# Altium schematic symbol library Rez-Axial Pot.SchLib: 52 symbols
Pins are listed as number, name and electrical type; pins without a type are passive.

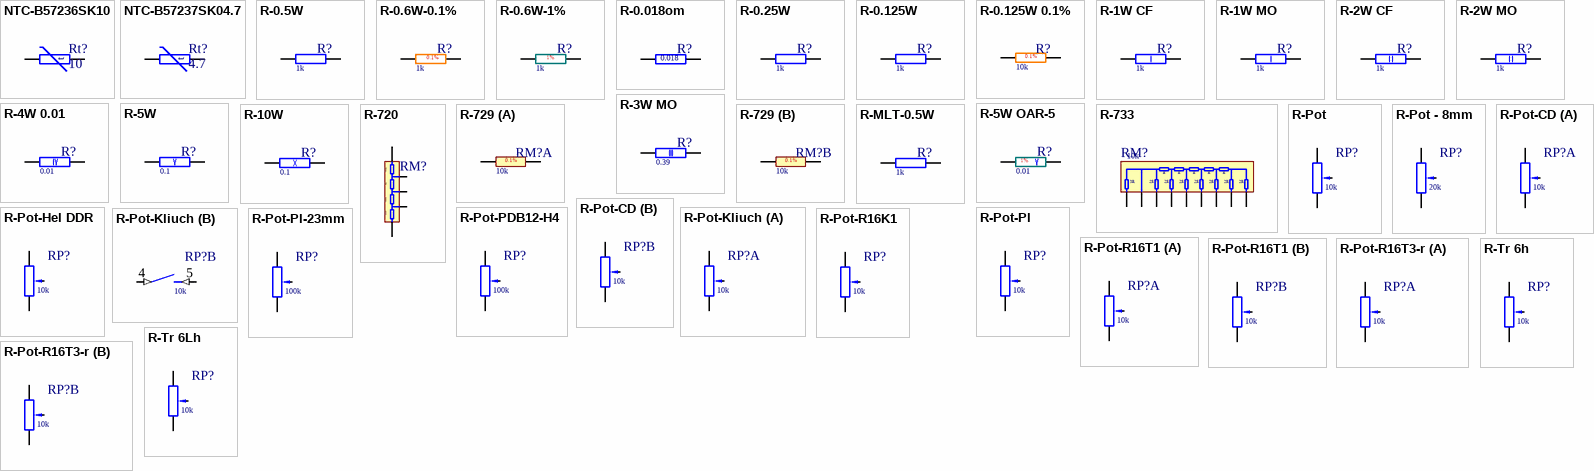
[diagram p0: symbols NTC-B57236SK10 to R-Tr 6Lh]

## NTC-B57236SK10
designator Rt?, comment 10
10oM 3.5A; Price: 1.15
footprint NTC D11.5-R5.08
pins: 1, 2
1 alternate drawing of the same symbol
text: t

## NTC-B57237SK04.7
designator Rt?, comment 4.7
4.7oM 5.1A; Price: 1.15
footprint NTC D15-R7.62
pins: 1, 2
1 alternate drawing of the same symbol
text: t

## R-0.5W
designator R?, comment 1k
0.5W 5% 350V; Price: 0.01; Value: 1k
footprint R0.5-400
simulation model Res (Resistor)
signal-integrity model Res
pins: 1, 2
1 alternate drawing of the same symbol

## R-0.6W-0.1%
designator R?, comment 1k
0.6W 0.1% 250V; Price: 0.5; Value: 1k
footprint R0.25-300a
simulation model Res (Resistor)
signal-integrity model Res
pins: 1, 2
1 alternate drawing of the same symbol
text: 0.1%

## R-0.6W-1%
designator R?, comment 1k
0.6W 1% 250V; Price: 0.02; Value: 1k
footprint R0.25-300a
simulation model Res (Resistor)
signal-integrity model Res
pins: 1, 2
1 alternate drawing of the same symbol
text: 1%

## R-0.018om
designator R?, comment 0.018
5W; Price: 0.02; Value: 0.018
footprint R-0.018
simulation model Res (Resistor)
signal-integrity model Res
pins: 1, 2
1 alternate drawing of the same symbol

## R-0.25W
designator R?, comment 1k
0.25W 5% 250V; Price: 0.01; Value: 1k
footprint R0.25-300
footprint R0.25-400
simulation model Res (Resistor)
signal-integrity model Res
pins: 1, 2
1 alternate drawing of the same symbol

## R-0.125W
designator R?, comment 1k
0.125W 5% 200V; Price: 0.01; Value: 1k
footprint R0.125-200
footprint R0.125-300
signal-integrity model Res
simulation model Res (Resistor)
pins: 1, 2
1 alternate drawing of the same symbol

## R-0.125W 0.1%
designator R?, comment 10k
Керамичен 0.125W 1%; Price: 0.01; Value: 10k
footprint RM2-300
simulation model Res (Resistor)
signal-integrity model Res
pins: 1, 2
1 alternate drawing of the same symbol
text: 0.1%

## R-1W CF
designator R?, comment 1k
1W 5% 500V; Price: 0.053; Value: 1k
footprint R1W CF-500
simulation model Res (Resistor)
signal-integrity model Res
footprint R1W CF-200 Ver
pins: 1, 2
1 alternate drawing of the same symbol

## R-1W MO
designator R?, comment 1k
1W 5% 350V; Price: 0.065; Value: 1k
footprint R1W MO-500
simulation model Res (Resistor)
signal-integrity model Res
footprint R1W MO-200 Ver
footprint R1W MO-600
pins: 1, 2
1 alternate drawing of the same symbol

## R-2W CF
designator R?, comment 1k
2W 5% 500V; Price: 0.1; Value: 1k
footprint R2W CF-700
simulation model Res (Resistor)
signal-integrity model Res
footprint R2W CF-200 Ver
footprint R2W CF-650
pins: 1, 2
1 alternate drawing of the same symbol

## R-2W MO
designator R?, comment 1k
2W 5% 350V; Price: 0.1; Value: 1k
footprint R2W MO-600
simulation model Res (Resistor)
signal-integrity model Res
footprint R2W MO-700
footprint R2W CF-200 Ver
pins: 1, 2
1 alternate drawing of the same symbol

## R-3W MO
designator R?, comment 0.39
3W 5% 500V; Price: 0.1; Value: 0.39
footprint R3W MO-700
footprint R3W MO-800
signal-integrity model Res
simulation model Res (Resistor)
footprint R3W MO-150 Ver
footprint R3W MO-200 Ver
pins: 1, 2
1 alternate drawing of the same symbol

## R-4W 0.01
designator R?, comment 0.01
4W 5%; Price: 0.1; Value: 0.01
footprint R4W-800
signal-integrity model Res
simulation model Res (Resistor)
pins: 1, 2
1 alternate drawing of the same symbol

## R-5W
designator R?, comment 0.1
5W 5%; Price: 0.20; Value: 0.1
footprint R5W-800
footprint R5W-900
simulation model Res (Resistor)
signal-integrity model Res
pins: 1, 2
1 alternate drawing of the same symbol

## R-5W OAR-5
designator R?, comment 0.01
5W 1%; Price: 2.5; Value: 0.01
footprint R-5W OAR-5
simulation model Res (Resistor)
signal-integrity model Res
pins: 1, 2
1 alternate drawing of the same symbol
text: 1%

## R-10W
designator R?, comment 0.1
10W 5%; Price: 0.20; Value: 0.1
footprint R10W-1900
simulation model Res (Resistor)
signal-integrity model Res
pins: 1, 2
1 alternate drawing of the same symbol

## R-720
designator RM?, comment 0.1-/-90k  (value not drawn)
Mатрица 0.1-0.9-9-90k 0,1%; Value: 0.1-/-90k; Price: 20
footprint RM5 - (0720)
simulation model Res (Model Description)
signal-integrity model Res
pins: 1, 2, 3, 4, 5
1 alternate drawing of the same symbol
text: 90k; 9k; 900; 100

## R-729
designator RM?, comment 10k
Матрица 0,1%; Price: 10; Value: 10k
footprint RM5 - (0720)
simulation model Res (Resistor)
signal-integrity model Res
part A pins: 1, 2
part B pins: 3, 4
1 alternate drawing of the same symbol
part A text: 0.1%
part B text: 0.1%

## R-733
designator RM?, comment 10k
R-2R Матрица 0,1%; Price: 25; Value: 10k
footprint RM9A
signal-integrity model Res (Model Description)
pins: 1, 2, 3, 4, 5, 6, 7, 8, 9
1 alternate drawing of the same symbol
text: R; 3R; 2R

## R-MLT-0.5W
designator R?, comment 1k
МЛТ 0,5W 5%; Price: 0.01; Value: 1k
footprint MLT-0.5W-500
simulation model Res (Resistor)
signal-integrity model Res
pins: 1, 2
1 alternate drawing of the same symbol

## R-Pot
designator RP?, comment 10k
*; Set Position: 0.5; Price: 1; Value: 10k
footprint Pot-Pl
simulation model Pot (Potentiometer)
signal-integrity model Pot
pins: 0 hidden to g, 1, 2, 3
1 alternate drawing of the same symbol

## R-Pot - 8mm
designator RP?, comment 20k
Trimer 0.1W 6mm PT6h(625MC); Set Position: 0.5; Price: 0.2; Value: 20k
footprint Pot - 8mm
simulation model Pot (Potentiometer)
signal-integrity model Pot
pins: 1, 2, 3
1 alternate drawing of the same symbol

## R-Pot-CD
designator RP?, comment 10k
CD; Set Position: 0.5; Price: 0.5; Value: 10k
footprint Pot-CD
simulation model Pot (Potentiometer)
signal-integrity model Pot
part A pins: 1, 2, 5
part B pins: 1, 3, 4
1 alternate drawing of the same symbol

## R-Pot-Hel DDR
designator RP?, comment 10k
10ob; Set Position: 0.5; Price: 10; Value: 10k
footprint Pot-Hel DDR
signal-integrity model Pot
simulation model Pot (Potentiometer)
pins: 1, 2, 3
1 alternate drawing of the same symbol

## R-Pot-Kliuch
designator RP?, comment 10k
*; Set Position: 0.5; Price: 1; Value: 10k
footprint Pot-Kliuch
signal-integrity model Pot
simulation model Pot (Potentiometer)
part A pins: 1, 2, 3
part B pins: 4 (in), 5 (in)
1 alternate drawing of the same symbol

## R-Pot-PDB12-H4
designator RP?, comment 100k
Lin; Set Position: 0.5; Price: 1; Value: 100k
footprint R-Pot-PDB12-H4 (Footprint not found)
signal-integrity model Pot
simulation model Pot (Potentiometer)
pins: 0 B hidden to g, 0 A hidden to g, 1, 2, 3
1 alternate drawing of the same symbol

## R-Pot-Pl
designator RP?, comment 10k
*; Set Position: 0.5; Price: 1; Value: 10k
footprint Pot-PL
signal-integrity model Pot
simulation model Pot (Potentiometer)
pins: 0 B hidden to g, 0 A hidden to g, 1, 2, 3
1 alternate drawing of the same symbol

## R-Pot-Pl-23mm
designator RP?, comment 100k
*; Set Position: 0.5; Price: 1; Value: 100k
footprint Pot-PL-23mm
simulation model Pot (Potentiometer)
signal-integrity model Pot
pins: 0 g (power) hidden to G, 1, 2, 3
1 alternate drawing of the same symbol

## R-Pot-R16K1
designator RP?, comment 10k
Sung Huei Mono Хор.; Set Position: 0.5; Price: 1; Value: 10k
footprint Pot-R16K1
simulation model Pot (Potentiometer)
signal-integrity model Pot
pins: 1, 2, 3
1 alternate drawing of the same symbol

## R-Pot-R16T1
designator RP?, comment 10k
Sung Huei Stereo Хор.; Set Position: 0.5; Price: 0.95; Value: 10k
footprint Pot-R16T1
simulation model Pot (Potentiometer)
signal-integrity model Pot
part A pins: 1, 2, 3
part B pins: 4, 5, 6
1 alternate drawing of the same symbol

## R-Pot-R16T3-r
designator RP?, comment 10k
Sung Huei Stereo Вер.; Set Position: 0.5; Price: 0.95; Value: 10k
footprint Pot-R16T3-r
signal-integrity model Pot
simulation model Pot (Potentiometer)
part A pins: 1, 2, 3
part B pins: 4, 5, 6
1 alternate drawing of the same symbol

## R-Tr 6h
designator RP?, comment 10k
Trimer 0.1W 6mm PT6h(625MC); Set Position: 0.5; Price: 0.2; Value: 10k
footprint R-Tr 6h
simulation model Pot (Potentiometer)
signal-integrity model Pot
pins: 1, 2, 3
1 alternate drawing of the same symbol

## R-Tr 6Lh
designator RP?, comment 10k
Тример 0,15W 6mm Хор.Piner; Set Position: 0.5; Price: 0.2; Value: 10k
footprint R-Tr 6Lh
simulation model Pot (Potentiometer)
signal-integrity model Pot
pins: 1, 2, 3
1 alternate drawing of the same symbol

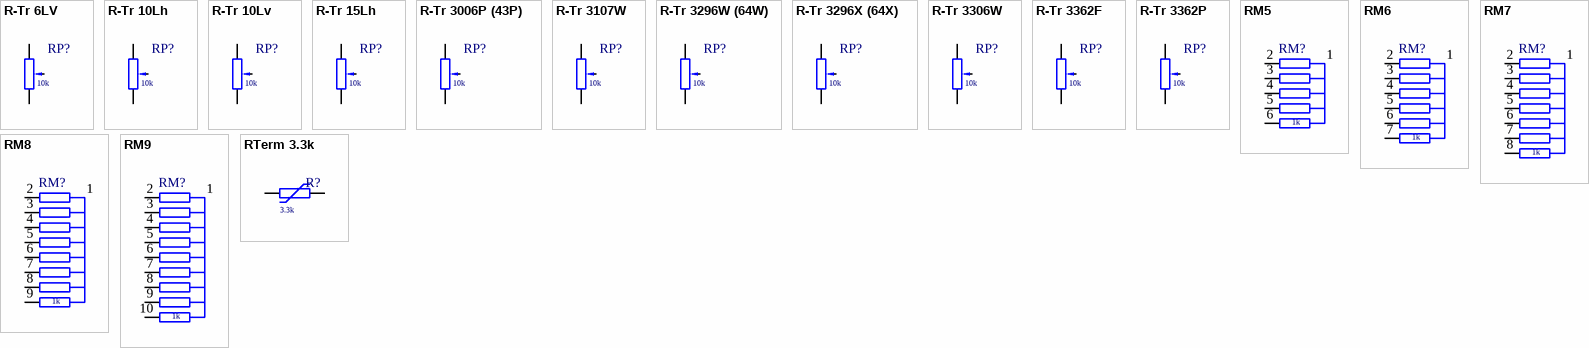
[diagram p1: symbols R-Tr 6LV to RTerm 3.3k]

## R-Tr 6LV
designator RP?, comment 10k
Тример 0,15W 6mm Вер. Piner; Set Position: 0.5; Price: 0.2; Value: 10k
footprint R-Tr 6LV
simulation model Pot (Potentiometer)
signal-integrity model Pot
pins: 1, 2, 3
1 alternate drawing of the same symbol

## R-Tr 10Lh
designator RP?, comment 10k
Тример 0,15W 10mm Хор.  (PNZ11Z); Set Position: 0.5; Price: 0.4; Value: 10k
footprint R-Tr 10Lh
simulation model Pot (Potentiometer)
signal-integrity model Pot
pins: 1, 2, 3
1 alternate drawing of the same symbol

## R-Tr 10Lv
designator RP?  value 10k  (hidden comment: R-Tr 10Lv)
Тример 0,15W 10mm Вер.; Set Position: 0.5; Price: 0.4
footprint R-Tr 10Lv
simulation model Pot (Potentiometer)
signal-integrity model Pot
pins: 1, 2, 3
1 alternate drawing of the same symbol

## R-Tr 15Lh
designator RP?, comment 10k
Тример 0,15W 15mm Хор. (PNZ14Z); Set Position: 0.5; Price: 0.4; Value: 10k
footprint R-Tr 15Lh
simulation model Pot (Potentiometer)
signal-integrity model Pot
pins: 1, 2, 3
1 alternate drawing of the same symbol

## R-Tr 3006P (43P)
designator RP?, comment 10k
Bourns 3006P 0.75W 15 Turns; Set Position: 0.5; Price: 1; Value: 10k
footprint R-Tr 43P
simulation model Pot (Potentiometer)
signal-integrity model Pot
pins: 1, 2, 3
1 alternate drawing of the same symbol

## R-Tr 3107W
designator RP?, comment 10k
Murata 3107W 0.25W 12 Turns; Set Position: 0.5; Price: 0.2; Value: 10k
footprint R-Tr 3107W
simulation model Pot (Potentiometer)
signal-integrity model Pot
pins: 1, 2, 3
1 alternate drawing of the same symbol

## R-Tr 3296W (64W)
designator RP?, comment 10k
Bourns 3296W 0.5W 25 Turns; Set Position: 0.5; Price: 1.20; Value: 10k
footprint R-Tr 64W
signal-integrity model Pot
simulation model Pot (Potentiometer)
pins: 1, 2, 3
1 alternate drawing of the same symbol

## R-Tr 3296X (64X)
designator RP?, comment 10k
Bourns 3296W 0.5W 25 Turns; Set Position: 0.5; Price: 2; Value: 10k
footprint R-Tr 64X
signal-integrity model Pot
simulation model Pot (Potentiometer)
pins: 1, 2, 3
1 alternate drawing of the same symbol

## R-Tr 3306W
designator RP?, comment 10k
Bourns 3306W 0.5W; Set Position: 0.5; Price: 0.2; Value: 10k
footprint R-Tr 3306W
signal-integrity model Pot
simulation model Pot (Potentiometer)
pins: 1, 2, 3
1 alternate drawing of the same symbol

## R-Tr 3362F
designator RP?, comment 10k
Bourns 3362F 0.5W; Set Position: 0.5; Price: 0.2; Value: 10k
footprint R-Tr 3362P
signal-integrity model Pot
simulation model Pot (Potentiometer)
pins: 1, 2, 3
1 alternate drawing of the same symbol

## R-Tr 3362P
designator RP?, comment 10k
Bourns 3362F 0.5W; Set Position: 0.5; Price: 0.2; Value: 10k
footprint R-Tr 3362P
simulation model Pot (Potentiometer)
signal-integrity model Pot
pins: 1, 2, 3
1 alternate drawing of the same symbol

## RM5
designator RM?, comment 1k
Матрица; Price: 1; Value: 1k
footprint RM6
simulation model Res (Resistor)
signal-integrity model Res
pins: 1 R1..5, 2 R1, 3 R2, 4 R3, 5 R4, 6 R5
1 alternate drawing of the same symbol

## RM6
designator RM?, comment 1k
Матрица; Price: 1; Value: 1k
footprint RM7
simulation model Res (Resistor)
signal-integrity model Res
pins: 1 R1..6, 2 R1, 3 R2, 4 R3, 5 R4, 6 R5, 7 R6
1 alternate drawing of the same symbol

## RM7
designator RM?  value 1k  (hidden comment: RM7)
Матрица; Price: 1
footprint RM8
simulation model Res (Resistor)
signal-integrity model Res
pins: 1 R1..7, 2 R1, 3 R2, 4 R3, 5 R4, 6 R5, 7 R6, 8 R7
1 alternate drawing of the same symbol

## RM8
designator RM?, comment 1k
Матрица; Price: 1; Value: 1k
footprint RM9
simulation model Res (Resistor)
signal-integrity model Res
pins: 1 R1..8, 2 R1, 3 R2, 4 R3, 5 R4, 6 R5, 7 R6, 8 R7, 9 R8
1 alternate drawing of the same symbol

## RM9
designator RM?, comment 1k
Матрица; Price: 1; Value: 1k
footprint RM10
simulation model Res (Resistor)
signal-integrity model Res
pins: 1 R1..9, 2 R1, 3 R2, 4 R3, 5 R4, 6 R5, 7 R6, 8 R7, 9 R8, 10 R9
1 alternate drawing of the same symbol

## RTerm 3.3k
designator R?, comment 3.3k
Термистор; Price: 0.1; VALUE: 3.3k
footprint R-T
signal-integrity model Res
pins: 1, 2
1 alternate drawing of the same symbol